# Altium schematic symbol library MCU_Microchip_SAMD.SchLib: 87 symbols (part 2 of 2)
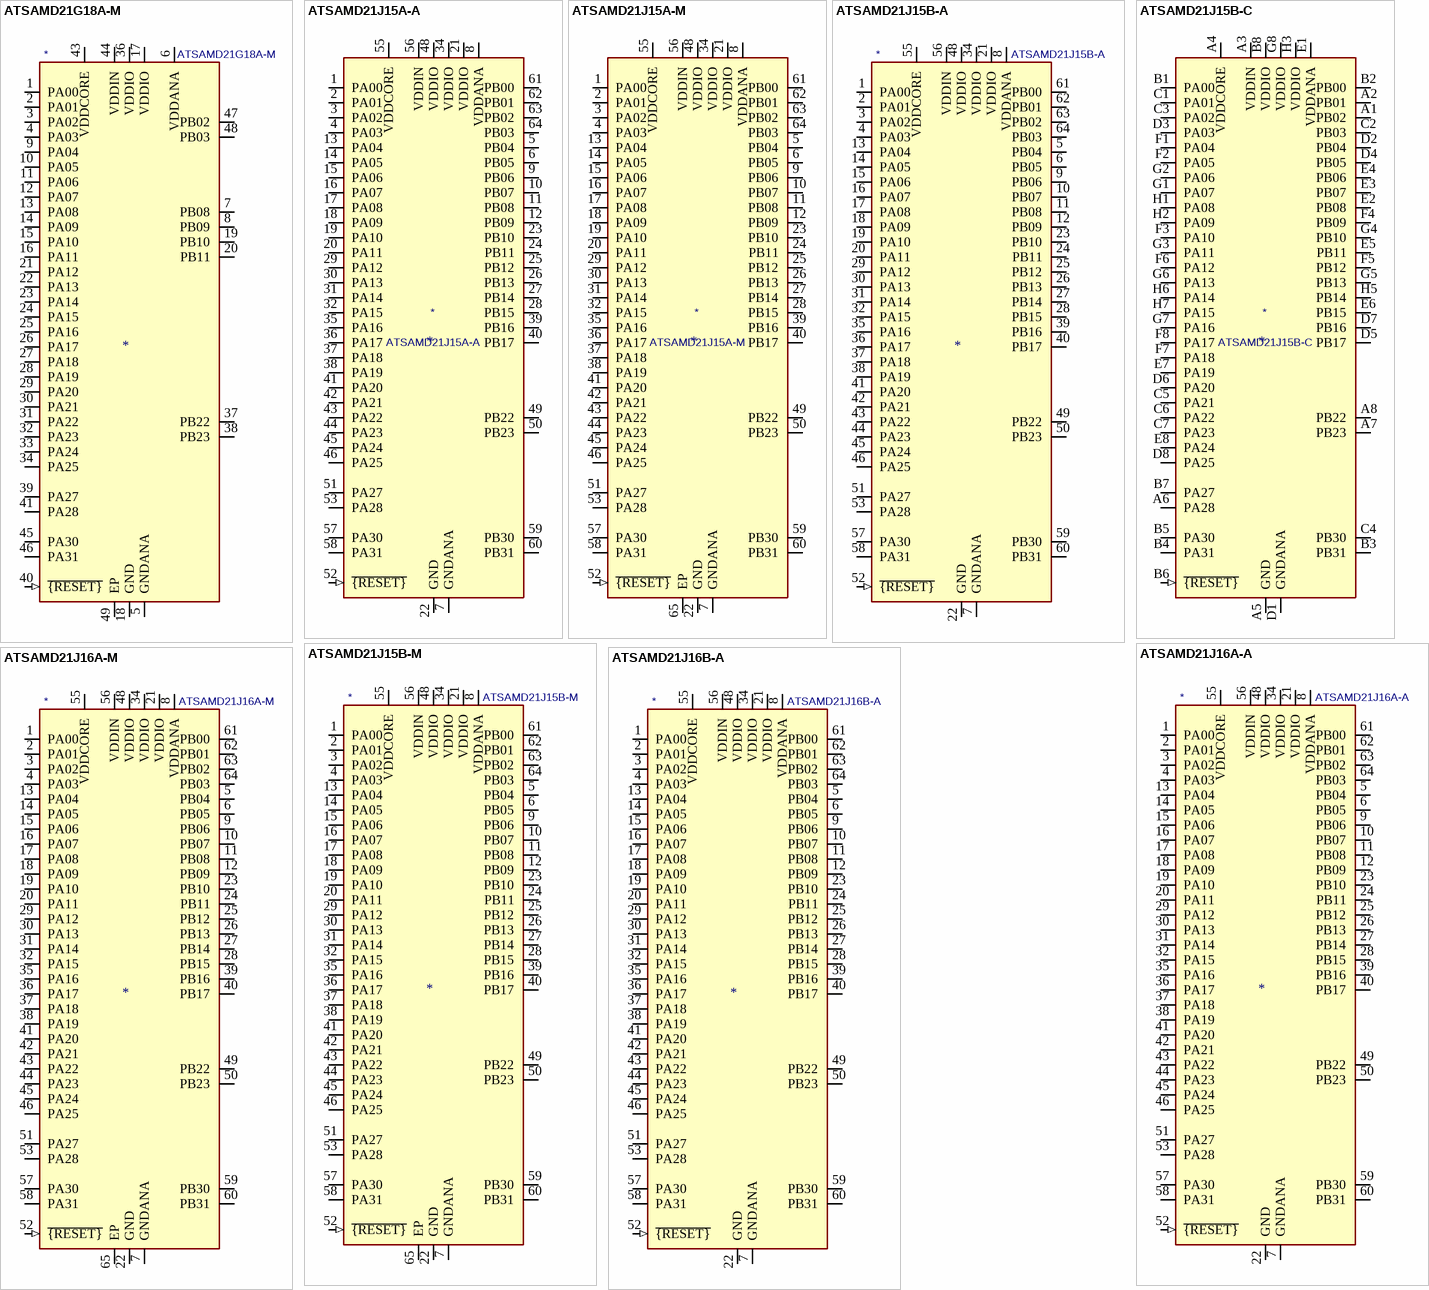
[diagram p8: symbols ATSAMD21G18A-M to ATSAMD21J16B-A]

## ATSAMD21J15A-M
designator *  value ATSAMD21J15A-M
ki_keywords: 32-bit ARM Cortex-M0+ MCU Microcontroller; ki_description: SAM D21 Microchip SMART ARM-based Flash MCU, 48Mhz, 32K Flash, 4K SRAM, QFN-64; ki_fp_filters: QFN*9x9mm*P0.5mm*; Footprint: Package_DFN_QFN:QFN-64-1EP_9x9mm_P0.5mm_EP4.7x4.7mm; Supplier: http://ww1.microchip.com/downloads/en/DeviceDoc/SAM_D21_DA1_Family_Data%20Sheet_DS40001882E.pdf
footprint QFN-64-1EP_9x9mm_P0.5mm_EP4.7x4.7mm
pins: 1 PA00 (io), 2 PA01 (io), 3 PA02 (io), 4 PA03 (io), 5 PB04 (io), 6 PB05 (io), 7 GNDANA (power), 8 VDDANA (power), 9 PB06 (io), 10 PB07 (io), 11 PB08 (io), 12 PB09 (io), 13 PA04 (io), 14 PA05 (io), 15 PA06 (io), 16 PA07 (io), 17 PA08 (io), 18 PA09 (io), 19 PA10 (io), 20 PA11 (io), 21 VDDIO (power), 22 GND (power), 23 PB10 (io), 24 PB11 (io), 25 PB12 (io), 26 PB13 (io), 27 PB14 (io), 28 PB15 (io), 29 PA12 (io), 30 PA13 (io), 31 PA14 (io), 32 PA15 (io), 33 GND hidden, 34 VDDIO (power), 35 PA16 (io), 36 PA17 (io), 37 PA18 (io), 38 PA19 (io), 39 PB16 (io), 40 PB17 (io), 41 PA20 (io), 42 PA21 (io), 43 PA22 (io), 44 PA23 (io), 45 PA24 (io), 46 PA25 (io), 47 GND hidden, 48 VDDIO (power), 49 PB22 (io), 50 PB23 (io), 51 PA27 (io), 52 ~{{RESET}} (in), 53 PA28 (io), 54 GND hidden, 55 VDDCORE (power), 56 VDDIN (power), 57 PA30 (io), 58 PA31 (io), 59 PB30 (io), 60 PB31 (io), 61 PB00 (io), 62 PB01 (io), 63 PB02 (io), 64 PB03 (io), 65 EP

## ATSAMD21J15B-A
designator *  value ATSAMD21J15B-A
ki_keywords: 32-bit ARM Cortex-M0+ MCU Microcontroller; ki_description: SAM D21 Microchip SMART ARM-based Flash MCU, 48Mhz, 32K Flash w/ 1K RWW, 4K SRAM, TQFP-64; ki_fp_filters: TQFP*10x10mm*P0.5mm*; Footprint: Package_QFP:TQFP-64_10x10mm_P0.5mm; Supplier: http://ww1.microchip.com/downloads/en/DeviceDoc/SAM_D21_DA1_Family_Data%20Sheet_DS40001882E.pdf
footprint TQFP-64_10x10mm_P0.5mm
pins: 1 PA00 (io), 2 PA01 (io), 3 PA02 (io), 4 PA03 (io), 5 PB04 (io), 6 PB05 (io), 7 GNDANA (power), 8 VDDANA (power), 9 PB06 (io), 10 PB07 (io), 11 PB08 (io), 12 PB09 (io), 13 PA04 (io), 14 PA05 (io), 15 PA06 (io), 16 PA07 (io), 17 PA08 (io), 18 PA09 (io), 19 PA10 (io), 20 PA11 (io), 21 VDDIO (power), 22 GND (power), 23 PB10 (io), 24 PB11 (io), 25 PB12 (io), 26 PB13 (io), 27 PB14 (io), 28 PB15 (io), 29 PA12 (io), 30 PA13 (io), 31 PA14 (io), 32 PA15 (io), 33 GND hidden, 34 VDDIO (power), 35 PA16 (io), 36 PA17 (io), 37 PA18 (io), 38 PA19 (io), 39 PB16 (io), 40 PB17 (io), 41 PA20 (io), 42 PA21 (io), 43 PA22 (io), 44 PA23 (io), 45 PA24 (io), 46 PA25 (io), 47 GND hidden, 48 VDDIO (power), 49 PB22 (io), 50 PB23 (io), 51 PA27 (io), 52 ~{{RESET}} (in), 53 PA28 (io), 54 GND hidden, 55 VDDCORE (power), 56 VDDIN (power), 57 PA30 (io), 58 PA31 (io), 59 PB30 (io), 60 PB31 (io), 61 PB00 (io), 62 PB01 (io), 63 PB02 (io), 64 PB03 (io)

## ATSAMD21J15B-C
designator *  value ATSAMD21J15B-C
ki_keywords: 32-bit ARM Cortex-M0+ MCU Microcontroller; ki_description: SAM D21 Microchip SMART ARM-based Flash MCU, 48Mhz, 32K Flash w/ 1K RWW, 4K SRAM, UFBGA-64; ki_fp_filters: UFBGA*5x5mm*Layout8x8*P0.5mm*; Footprint: Package_BGA:UFBGA-64_5x5mm_Layout8x8_P0.5mm; Supplier: http://ww1.microchip.com/downloads/en/DeviceDoc/SAM_D21_DA1_Family_Data%20Sheet_DS40001882E.pdf
footprint UFBGA-64_5x5mm_Layout8x8_P0.5mm
pins: A1 PB02 (io), A2 PB01 (io), A3 VDDIN (power), A4 VDDCORE (power), A5 GND (power), A6 PA28 (io), A7 PB23 (io), A8 PB22 (io), B1 PA00 (io), B2 PB00 (io), B3 PB31 (io), B4 PA31 (io), B5 PA30 (io), B6 ~{{RESET}} (in), B7 PA27 (io), B8 VDDIO (power), C1 PA01 (io), C2 PB03 (io), C3 PA02 (io), C4 PB30 (io), C5 PA21 (io), C6 PA22 (io), C7 PA23 (io), C8 GND hidden, D1 GNDANA (power), D2 PB04 (io), D3 PA03 (io), D4 PB05 (io), D5 PB17 (io), D6 PA20 (io), D7 PB16 (io), D8 PA25 (io), E1 VDDANA (power), E2 PB08 (io), E3 PB07 (io), E4 PB06 (io), E5 PB11 (io), E6 PB15 (io), E7 PA19 (io), E8 PA24 (io), F1 PA04 (io), F2 PA05 (io), F3 PA10 (io), F4 PB09 (io), F5 PB12 (io), F6 PA12 (io), F7 PA18 (io), F8 PA17 (io), G1 PA07 (io), G2 PA06 (io), G3 PA11 (io), G4 PB10 (io), G5 PB13 (io), G6 PA13 (io), G7 PA16 (io), G8 VDDIO (power), H1 PA08 (io), H2 PA09 (io), H3 VDDIO (power), H4 GND hidden, H5 PB14 (io), H6 PA14 (io), H7 PA15 (io), H8 GND hidden

## ATSAMD21J15B-M
designator *  value ATSAMD21J15B-M
ki_keywords: 32-bit ARM Cortex-M0+ MCU Microcontroller; ki_description: SAM D21 Microchip SMART ARM-based Flash MCU, 48Mhz, 32K Flash w/ 1K RWW, 4K SRAM, QFN-64; ki_fp_filters: QFN*9x9mm*P0.5mm*; Footprint: Package_DFN_QFN:QFN-64-1EP_9x9mm_P0.5mm_EP4.7x4.7mm; Supplier: http://ww1.microchip.com/downloads/en/DeviceDoc/SAM_D21_DA1_Family_Data%20Sheet_DS40001882E.pdf
footprint QFN-64-1EP_9x9mm_P0.5mm_EP4.7x4.7mm
pins: 1 PA00 (io), 2 PA01 (io), 3 PA02 (io), 4 PA03 (io), 5 PB04 (io), 6 PB05 (io), 7 GNDANA (power), 8 VDDANA (power), 9 PB06 (io), 10 PB07 (io), 11 PB08 (io), 12 PB09 (io), 13 PA04 (io), 14 PA05 (io), 15 PA06 (io), 16 PA07 (io), 17 PA08 (io), 18 PA09 (io), 19 PA10 (io), 20 PA11 (io), 21 VDDIO (power), 22 GND (power), 23 PB10 (io), 24 PB11 (io), 25 PB12 (io), 26 PB13 (io), 27 PB14 (io), 28 PB15 (io), 29 PA12 (io), 30 PA13 (io), 31 PA14 (io), 32 PA15 (io), 33 GND hidden, 34 VDDIO (power), 35 PA16 (io), 36 PA17 (io), 37 PA18 (io), 38 PA19 (io), 39 PB16 (io), 40 PB17 (io), 41 PA20 (io), 42 PA21 (io), 43 PA22 (io), 44 PA23 (io), 45 PA24 (io), 46 PA25 (io), 47 GND hidden, 48 VDDIO (power), 49 PB22 (io), 50 PB23 (io), 51 PA27 (io), 52 ~{{RESET}} (in), 53 PA28 (io), 54 GND hidden, 55 VDDCORE (power), 56 VDDIN (power), 57 PA30 (io), 58 PA31 (io), 59 PB30 (io), 60 PB31 (io), 61 PB00 (io), 62 PB01 (io), 63 PB02 (io), 64 PB03 (io), 65 EP

## ATSAMD21J16A-A
designator *  value ATSAMD21J16A-A
ki_keywords: 32-bit ARM Cortex-M0+ MCU Microcontroller; ki_description: SAM D21 Microchip SMART ARM-based Flash MCU, 48Mhz, 64K Flash, 8K SRAM, TQFP-64; ki_fp_filters: TQFP*10x10mm*P0.5mm*; Footprint: Package_QFP:TQFP-64_10x10mm_P0.5mm; Supplier: http://ww1.microchip.com/downloads/en/DeviceDoc/SAM_D21_DA1_Family_Data%20Sheet_DS40001882E.pdf
footprint TQFP-64_10x10mm_P0.5mm
pins: 1 PA00 (io), 2 PA01 (io), 3 PA02 (io), 4 PA03 (io), 5 PB04 (io), 6 PB05 (io), 7 GNDANA (power), 8 VDDANA (power), 9 PB06 (io), 10 PB07 (io), 11 PB08 (io), 12 PB09 (io), 13 PA04 (io), 14 PA05 (io), 15 PA06 (io), 16 PA07 (io), 17 PA08 (io), 18 PA09 (io), 19 PA10 (io), 20 PA11 (io), 21 VDDIO (power), 22 GND (power), 23 PB10 (io), 24 PB11 (io), 25 PB12 (io), 26 PB13 (io), 27 PB14 (io), 28 PB15 (io), 29 PA12 (io), 30 PA13 (io), 31 PA14 (io), 32 PA15 (io), 33 GND hidden, 34 VDDIO (power), 35 PA16 (io), 36 PA17 (io), 37 PA18 (io), 38 PA19 (io), 39 PB16 (io), 40 PB17 (io), 41 PA20 (io), 42 PA21 (io), 43 PA22 (io), 44 PA23 (io), 45 PA24 (io), 46 PA25 (io), 47 GND hidden, 48 VDDIO (power), 49 PB22 (io), 50 PB23 (io), 51 PA27 (io), 52 ~{{RESET}} (in), 53 PA28 (io), 54 GND hidden, 55 VDDCORE (power), 56 VDDIN (power), 57 PA30 (io), 58 PA31 (io), 59 PB30 (io), 60 PB31 (io), 61 PB00 (io), 62 PB01 (io), 63 PB02 (io), 64 PB03 (io)

## ATSAMD21J16A-M
designator *  value ATSAMD21J16A-M
ki_keywords: 32-bit ARM Cortex-M0+ MCU Microcontroller; ki_description: SAM D21 Microchip SMART ARM-based Flash MCU, 48Mhz, 64K Flash, 8K SRAM, QFN-64; ki_fp_filters: QFN*9x9mm*P0.5mm*; Footprint: Package_DFN_QFN:QFN-64-1EP_9x9mm_P0.5mm_EP4.7x4.7mm; Supplier: http://ww1.microchip.com/downloads/en/DeviceDoc/SAM_D21_DA1_Family_Data%20Sheet_DS40001882E.pdf
footprint QFN-64-1EP_9x9mm_P0.5mm_EP4.7x4.7mm
pins: 1 PA00 (io), 2 PA01 (io), 3 PA02 (io), 4 PA03 (io), 5 PB04 (io), 6 PB05 (io), 7 GNDANA (power), 8 VDDANA (power), 9 PB06 (io), 10 PB07 (io), 11 PB08 (io), 12 PB09 (io), 13 PA04 (io), 14 PA05 (io), 15 PA06 (io), 16 PA07 (io), 17 PA08 (io), 18 PA09 (io), 19 PA10 (io), 20 PA11 (io), 21 VDDIO (power), 22 GND (power), 23 PB10 (io), 24 PB11 (io), 25 PB12 (io), 26 PB13 (io), 27 PB14 (io), 28 PB15 (io), 29 PA12 (io), 30 PA13 (io), 31 PA14 (io), 32 PA15 (io), 33 GND hidden, 34 VDDIO (power), 35 PA16 (io), 36 PA17 (io), 37 PA18 (io), 38 PA19 (io), 39 PB16 (io), 40 PB17 (io), 41 PA20 (io), 42 PA21 (io), 43 PA22 (io), 44 PA23 (io), 45 PA24 (io), 46 PA25 (io), 47 GND hidden, 48 VDDIO (power), 49 PB22 (io), 50 PB23 (io), 51 PA27 (io), 52 ~{{RESET}} (in), 53 PA28 (io), 54 GND hidden, 55 VDDCORE (power), 56 VDDIN (power), 57 PA30 (io), 58 PA31 (io), 59 PB30 (io), 60 PB31 (io), 61 PB00 (io), 62 PB01 (io), 63 PB02 (io), 64 PB03 (io), 65 EP

## ATSAMD21J16B-A
designator *  value ATSAMD21J16B-A
ki_keywords: 32-bit ARM Cortex-M0+ MCU Microcontroller; ki_description: SAM D21 Microchip SMART ARM-based Flash MCU, 48Mhz, 64K Flash w/ 2K RWW, 8K SRAM, TQFP-64; ki_fp_filters: TQFP*10x10mm*P0.5mm*; Footprint: Package_QFP:TQFP-64_10x10mm_P0.5mm; Supplier: http://ww1.microchip.com/downloads/en/DeviceDoc/SAM_D21_DA1_Family_Data%20Sheet_DS40001882E.pdf
footprint TQFP-64_10x10mm_P0.5mm
pins: 1 PA00 (io), 2 PA01 (io), 3 PA02 (io), 4 PA03 (io), 5 PB04 (io), 6 PB05 (io), 7 GNDANA (power), 8 VDDANA (power), 9 PB06 (io), 10 PB07 (io), 11 PB08 (io), 12 PB09 (io), 13 PA04 (io), 14 PA05 (io), 15 PA06 (io), 16 PA07 (io), 17 PA08 (io), 18 PA09 (io), 19 PA10 (io), 20 PA11 (io), 21 VDDIO (power), 22 GND (power), 23 PB10 (io), 24 PB11 (io), 25 PB12 (io), 26 PB13 (io), 27 PB14 (io), 28 PB15 (io), 29 PA12 (io), 30 PA13 (io), 31 PA14 (io), 32 PA15 (io), 33 GND hidden, 34 VDDIO (power), 35 PA16 (io), 36 PA17 (io), 37 PA18 (io), 38 PA19 (io), 39 PB16 (io), 40 PB17 (io), 41 PA20 (io), 42 PA21 (io), 43 PA22 (io), 44 PA23 (io), 45 PA24 (io), 46 PA25 (io), 47 GND hidden, 48 VDDIO (power), 49 PB22 (io), 50 PB23 (io), 51 PA27 (io), 52 ~{{RESET}} (in), 53 PA28 (io), 54 GND hidden, 55 VDDCORE (power), 56 VDDIN (power), 57 PA30 (io), 58 PA31 (io), 59 PB30 (io), 60 PB31 (io), 61 PB00 (io), 62 PB01 (io), 63 PB02 (io), 64 PB03 (io)

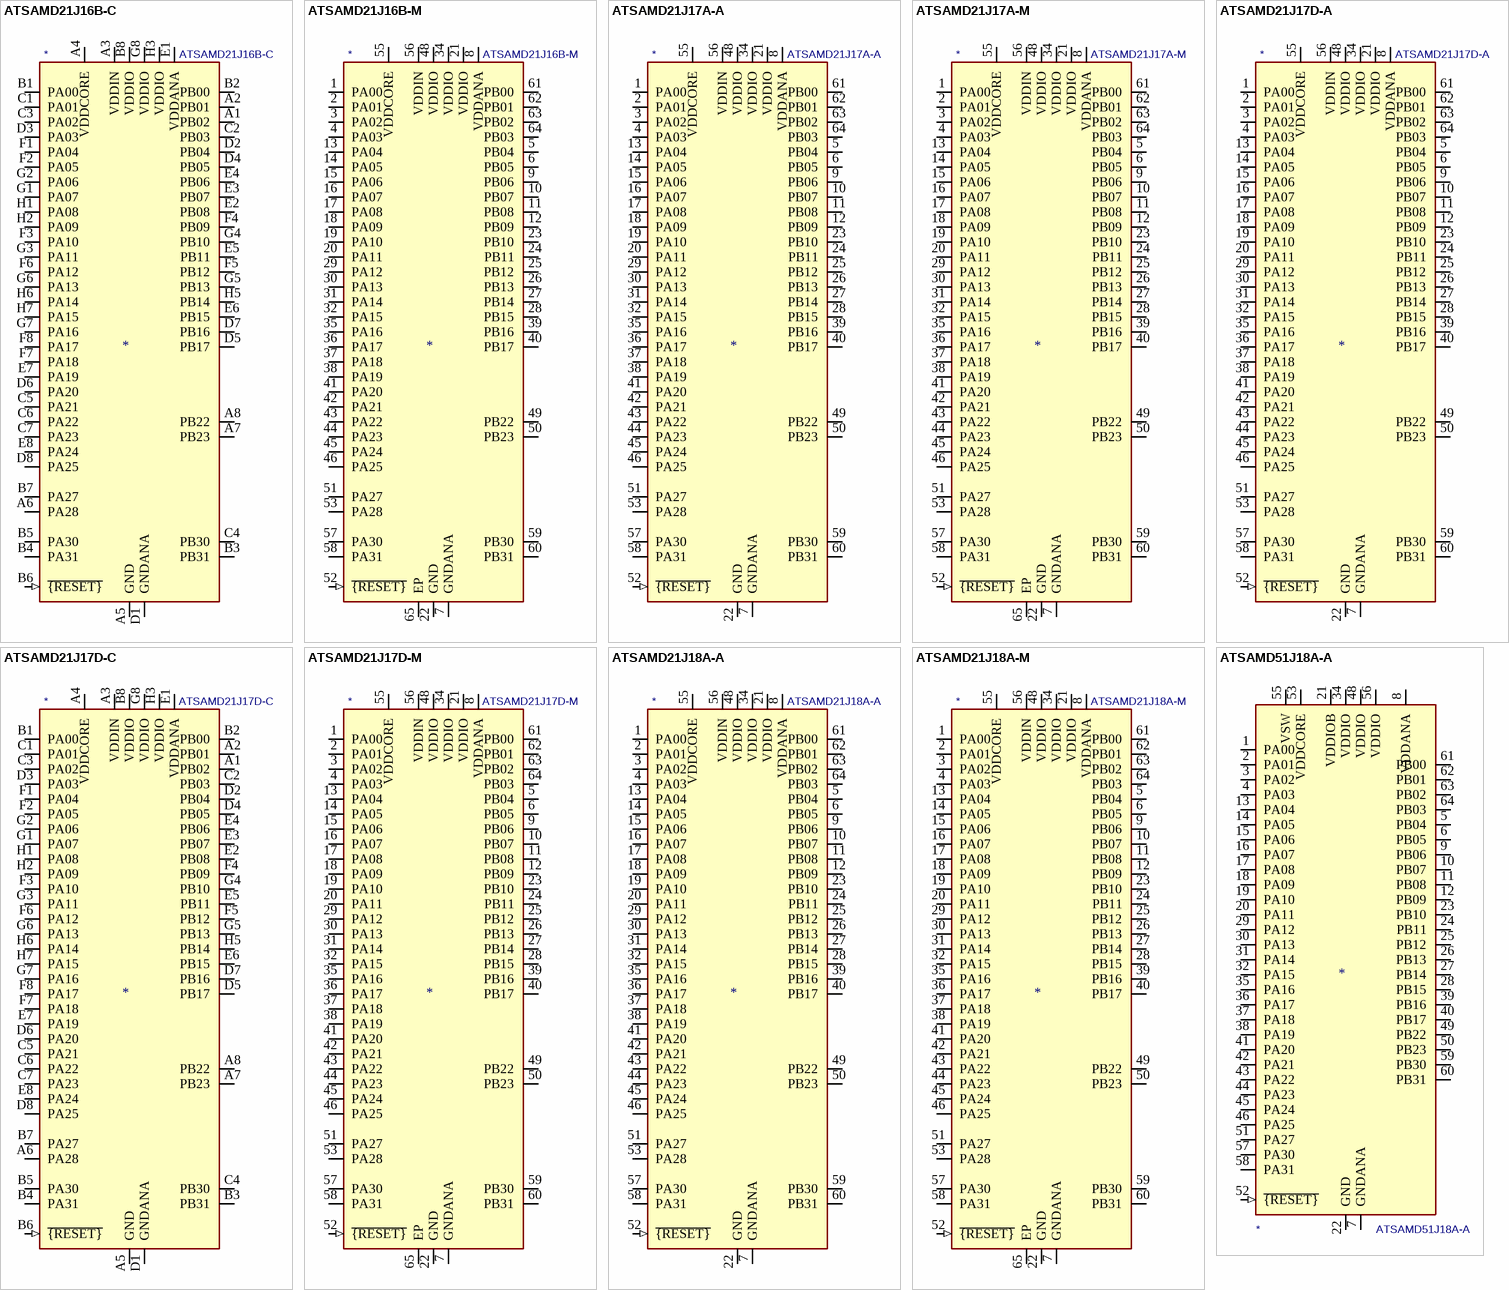
[diagram p5: symbols ATSAMD21J16B-C to ATSAMD51J18A-A]

## ATSAMD21J16B-C
designator *  value ATSAMD21J16B-C
ki_keywords: 32-bit ARM Cortex-M0+ MCU Microcontroller; ki_description: SAM D21 Microchip SMART ARM-based Flash MCU, 48Mhz, 64K Flash w/ 2K RWW, 8K SRAM, UFBGA-64; ki_fp_filters: UFBGA*5x5mm*Layout8x8*P0.5mm*; Footprint: Package_BGA:UFBGA-64_5x5mm_Layout8x8_P0.5mm; Supplier: http://ww1.microchip.com/downloads/en/DeviceDoc/SAM_D21_DA1_Family_Data%20Sheet_DS40001882E.pdf
footprint UFBGA-64_5x5mm_Layout8x8_P0.5mm
pins: A1 PB02 (io), A2 PB01 (io), A3 VDDIN (power), A4 VDDCORE (power), A5 GND (power), A6 PA28 (io), A7 PB23 (io), A8 PB22 (io), B1 PA00 (io), B2 PB00 (io), B3 PB31 (io), B4 PA31 (io), B5 PA30 (io), B6 ~{{RESET}} (in), B7 PA27 (io), B8 VDDIO (power), C1 PA01 (io), C2 PB03 (io), C3 PA02 (io), C4 PB30 (io), C5 PA21 (io), C6 PA22 (io), C7 PA23 (io), C8 GND hidden, D1 GNDANA (power), D2 PB04 (io), D3 PA03 (io), D4 PB05 (io), D5 PB17 (io), D6 PA20 (io), D7 PB16 (io), D8 PA25 (io), E1 VDDANA (power), E2 PB08 (io), E3 PB07 (io), E4 PB06 (io), E5 PB11 (io), E6 PB15 (io), E7 PA19 (io), E8 PA24 (io), F1 PA04 (io), F2 PA05 (io), F3 PA10 (io), F4 PB09 (io), F5 PB12 (io), F6 PA12 (io), F7 PA18 (io), F8 PA17 (io), G1 PA07 (io), G2 PA06 (io), G3 PA11 (io), G4 PB10 (io), G5 PB13 (io), G6 PA13 (io), G7 PA16 (io), G8 VDDIO (power), H1 PA08 (io), H2 PA09 (io), H3 VDDIO (power), H4 GND hidden, H5 PB14 (io), H6 PA14 (io), H7 PA15 (io), H8 GND hidden

## ATSAMD21J16B-M
designator *  value ATSAMD21J16B-M
ki_keywords: 32-bit ARM Cortex-M0+ MCU Microcontroller; ki_description: SAM D21 Microchip SMART ARM-based Flash MCU, 48Mhz, 64K Flash w/ 2K RWW, 8K SRAM, QFN-64; ki_fp_filters: QFN*9x9mm*P0.5mm*; Footprint: Package_DFN_QFN:QFN-64-1EP_9x9mm_P0.5mm_EP4.7x4.7mm; Supplier: http://ww1.microchip.com/downloads/en/DeviceDoc/SAM_D21_DA1_Family_Data%20Sheet_DS40001882E.pdf
footprint QFN-64-1EP_9x9mm_P0.5mm_EP4.7x4.7mm
pins: 1 PA00 (io), 2 PA01 (io), 3 PA02 (io), 4 PA03 (io), 5 PB04 (io), 6 PB05 (io), 7 GNDANA (power), 8 VDDANA (power), 9 PB06 (io), 10 PB07 (io), 11 PB08 (io), 12 PB09 (io), 13 PA04 (io), 14 PA05 (io), 15 PA06 (io), 16 PA07 (io), 17 PA08 (io), 18 PA09 (io), 19 PA10 (io), 20 PA11 (io), 21 VDDIO (power), 22 GND (power), 23 PB10 (io), 24 PB11 (io), 25 PB12 (io), 26 PB13 (io), 27 PB14 (io), 28 PB15 (io), 29 PA12 (io), 30 PA13 (io), 31 PA14 (io), 32 PA15 (io), 33 GND hidden, 34 VDDIO (power), 35 PA16 (io), 36 PA17 (io), 37 PA18 (io), 38 PA19 (io), 39 PB16 (io), 40 PB17 (io), 41 PA20 (io), 42 PA21 (io), 43 PA22 (io), 44 PA23 (io), 45 PA24 (io), 46 PA25 (io), 47 GND hidden, 48 VDDIO (power), 49 PB22 (io), 50 PB23 (io), 51 PA27 (io), 52 ~{{RESET}} (in), 53 PA28 (io), 54 GND hidden, 55 VDDCORE (power), 56 VDDIN (power), 57 PA30 (io), 58 PA31 (io), 59 PB30 (io), 60 PB31 (io), 61 PB00 (io), 62 PB01 (io), 63 PB02 (io), 64 PB03 (io), 65 EP

## ATSAMD21J17A-A
designator *  value ATSAMD21J17A-A
ki_keywords: 32-bit ARM Cortex-M0+ MCU Microcontroller; ki_description: SAM D21 Microchip SMART ARM-based Flash MCU, 48Mhz, 128K Flash, 16K SRAM, TQFP-64; ki_fp_filters: TQFP*10x10mm*P0.5mm*; Footprint: Package_QFP:TQFP-64_10x10mm_P0.5mm; Supplier: http://ww1.microchip.com/downloads/en/DeviceDoc/SAM_D21_DA1_Family_Data%20Sheet_DS40001882E.pdf
footprint TQFP-64_10x10mm_P0.5mm
pins: 1 PA00 (io), 2 PA01 (io), 3 PA02 (io), 4 PA03 (io), 5 PB04 (io), 6 PB05 (io), 7 GNDANA (power), 8 VDDANA (power), 9 PB06 (io), 10 PB07 (io), 11 PB08 (io), 12 PB09 (io), 13 PA04 (io), 14 PA05 (io), 15 PA06 (io), 16 PA07 (io), 17 PA08 (io), 18 PA09 (io), 19 PA10 (io), 20 PA11 (io), 21 VDDIO (power), 22 GND (power), 23 PB10 (io), 24 PB11 (io), 25 PB12 (io), 26 PB13 (io), 27 PB14 (io), 28 PB15 (io), 29 PA12 (io), 30 PA13 (io), 31 PA14 (io), 32 PA15 (io), 33 GND hidden, 34 VDDIO (power), 35 PA16 (io), 36 PA17 (io), 37 PA18 (io), 38 PA19 (io), 39 PB16 (io), 40 PB17 (io), 41 PA20 (io), 42 PA21 (io), 43 PA22 (io), 44 PA23 (io), 45 PA24 (io), 46 PA25 (io), 47 GND hidden, 48 VDDIO (power), 49 PB22 (io), 50 PB23 (io), 51 PA27 (io), 52 ~{{RESET}} (in), 53 PA28 (io), 54 GND hidden, 55 VDDCORE (power), 56 VDDIN (power), 57 PA30 (io), 58 PA31 (io), 59 PB30 (io), 60 PB31 (io), 61 PB00 (io), 62 PB01 (io), 63 PB02 (io), 64 PB03 (io)

## ATSAMD21J17A-M
designator *  value ATSAMD21J17A-M
ki_keywords: 32-bit ARM Cortex-M0+ MCU Microcontroller; ki_description: SAM D21 Microchip SMART ARM-based Flash MCU, 48Mhz, 128K Flash, 16K SRAM, QFN-64; ki_fp_filters: QFN*9x9mm*P0.5mm*; Footprint: Package_DFN_QFN:QFN-64-1EP_9x9mm_P0.5mm_EP4.7x4.7mm; Supplier: http://ww1.microchip.com/downloads/en/DeviceDoc/SAM_D21_DA1_Family_Data%20Sheet_DS40001882E.pdf
footprint QFN-64-1EP_9x9mm_P0.5mm_EP4.7x4.7mm
pins: 1 PA00 (io), 2 PA01 (io), 3 PA02 (io), 4 PA03 (io), 5 PB04 (io), 6 PB05 (io), 7 GNDANA (power), 8 VDDANA (power), 9 PB06 (io), 10 PB07 (io), 11 PB08 (io), 12 PB09 (io), 13 PA04 (io), 14 PA05 (io), 15 PA06 (io), 16 PA07 (io), 17 PA08 (io), 18 PA09 (io), 19 PA10 (io), 20 PA11 (io), 21 VDDIO (power), 22 GND (power), 23 PB10 (io), 24 PB11 (io), 25 PB12 (io), 26 PB13 (io), 27 PB14 (io), 28 PB15 (io), 29 PA12 (io), 30 PA13 (io), 31 PA14 (io), 32 PA15 (io), 33 GND hidden, 34 VDDIO (power), 35 PA16 (io), 36 PA17 (io), 37 PA18 (io), 38 PA19 (io), 39 PB16 (io), 40 PB17 (io), 41 PA20 (io), 42 PA21 (io), 43 PA22 (io), 44 PA23 (io), 45 PA24 (io), 46 PA25 (io), 47 GND hidden, 48 VDDIO (power), 49 PB22 (io), 50 PB23 (io), 51 PA27 (io), 52 ~{{RESET}} (in), 53 PA28 (io), 54 GND hidden, 55 VDDCORE (power), 56 VDDIN (power), 57 PA30 (io), 58 PA31 (io), 59 PB30 (io), 60 PB31 (io), 61 PB00 (io), 62 PB01 (io), 63 PB02 (io), 64 PB03 (io), 65 EP

## ATSAMD21J17D-A
designator *  value ATSAMD21J17D-A
ki_keywords: 32-bit ARM Cortex-M0+ MCU Microcontroller; ki_description: SAM D21 Microchip SMART ARM-based Flash MCU, 48Mhz, 128K Flash w/ 4K RWW, 16K SRAM, TQFP-64; ki_fp_filters: TQFP*10x10mm*P0.5mm*; Footprint: Package_QFP:TQFP-64_10x10mm_P0.5mm; Supplier: http://ww1.microchip.com/downloads/en/DeviceDoc/SAM_D21_DA1_Family_Data%20Sheet_DS40001882E.pdf
footprint TQFP-64_10x10mm_P0.5mm
pins: 1 PA00 (io), 2 PA01 (io), 3 PA02 (io), 4 PA03 (io), 5 PB04 (io), 6 PB05 (io), 7 GNDANA (power), 8 VDDANA (power), 9 PB06 (io), 10 PB07 (io), 11 PB08 (io), 12 PB09 (io), 13 PA04 (io), 14 PA05 (io), 15 PA06 (io), 16 PA07 (io), 17 PA08 (io), 18 PA09 (io), 19 PA10 (io), 20 PA11 (io), 21 VDDIO (power), 22 GND (power), 23 PB10 (io), 24 PB11 (io), 25 PB12 (io), 26 PB13 (io), 27 PB14 (io), 28 PB15 (io), 29 PA12 (io), 30 PA13 (io), 31 PA14 (io), 32 PA15 (io), 33 GND hidden, 34 VDDIO (power), 35 PA16 (io), 36 PA17 (io), 37 PA18 (io), 38 PA19 (io), 39 PB16 (io), 40 PB17 (io), 41 PA20 (io), 42 PA21 (io), 43 PA22 (io), 44 PA23 (io), 45 PA24 (io), 46 PA25 (io), 47 GND hidden, 48 VDDIO (power), 49 PB22 (io), 50 PB23 (io), 51 PA27 (io), 52 ~{{RESET}} (in), 53 PA28 (io), 54 GND hidden, 55 VDDCORE (power), 56 VDDIN (power), 57 PA30 (io), 58 PA31 (io), 59 PB30 (io), 60 PB31 (io), 61 PB00 (io), 62 PB01 (io), 63 PB02 (io), 64 PB03 (io)

## ATSAMD21J17D-C
designator *  value ATSAMD21J17D-C
ki_keywords: 32-bit ARM Cortex-M0+ MCU Microcontroller; ki_description: SAM D21 Microchip SMART ARM-based Flash MCU, 48Mhz, 128K Flash w/ 4K RWW, 16K SRAM, UFBGA-64; ki_fp_filters: UFBGA*5x5mm*Layout8x8*P0.5mm*; Footprint: Package_BGA:UFBGA-64_5x5mm_Layout8x8_P0.5mm; Supplier: http://ww1.microchip.com/downloads/en/DeviceDoc/SAM_D21_DA1_Family_Data%20Sheet_DS40001882E.pdf
footprint UFBGA-64_5x5mm_Layout8x8_P0.5mm
pins: A1 PB02 (io), A2 PB01 (io), A3 VDDIN (power), A4 VDDCORE (power), A5 GND (power), A6 PA28 (io), A7 PB23 (io), A8 PB22 (io), B1 PA00 (io), B2 PB00 (io), B3 PB31 (io), B4 PA31 (io), B5 PA30 (io), B6 ~{{RESET}} (in), B7 PA27 (io), B8 VDDIO (power), C1 PA01 (io), C2 PB03 (io), C3 PA02 (io), C4 PB30 (io), C5 PA21 (io), C6 PA22 (io), C7 PA23 (io), C8 GND hidden, D1 GNDANA (power), D2 PB04 (io), D3 PA03 (io), D4 PB05 (io), D5 PB17 (io), D6 PA20 (io), D7 PB16 (io), D8 PA25 (io), E1 VDDANA (power), E2 PB08 (io), E3 PB07 (io), E4 PB06 (io), E5 PB11 (io), E6 PB15 (io), E7 PA19 (io), E8 PA24 (io), F1 PA04 (io), F2 PA05 (io), F3 PA10 (io), F4 PB09 (io), F5 PB12 (io), F6 PA12 (io), F7 PA18 (io), F8 PA17 (io), G1 PA07 (io), G2 PA06 (io), G3 PA11 (io), G4 PB10 (io), G5 PB13 (io), G6 PA13 (io), G7 PA16 (io), G8 VDDIO (power), H1 PA08 (io), H2 PA09 (io), H3 VDDIO (power), H4 GND hidden, H5 PB14 (io), H6 PA14 (io), H7 PA15 (io), H8 GND hidden

## ATSAMD21J17D-M
designator *  value ATSAMD21J17D-M
ki_keywords: 32-bit ARM Cortex-M0+ MCU Microcontroller; ki_description: SAM D21 Microchip SMART ARM-based Flash MCU, 48Mhz, 128K Flash w/ 4K RWW, 16K SRAM, QFN-64; ki_fp_filters: QFN*9x9mm*P0.5mm*; Footprint: Package_DFN_QFN:QFN-64-1EP_9x9mm_P0.5mm_EP4.7x4.7mm; Supplier: http://ww1.microchip.com/downloads/en/DeviceDoc/SAM_D21_DA1_Family_Data%20Sheet_DS40001882E.pdf
footprint QFN-64-1EP_9x9mm_P0.5mm_EP4.7x4.7mm
pins: 1 PA00 (io), 2 PA01 (io), 3 PA02 (io), 4 PA03 (io), 5 PB04 (io), 6 PB05 (io), 7 GNDANA (power), 8 VDDANA (power), 9 PB06 (io), 10 PB07 (io), 11 PB08 (io), 12 PB09 (io), 13 PA04 (io), 14 PA05 (io), 15 PA06 (io), 16 PA07 (io), 17 PA08 (io), 18 PA09 (io), 19 PA10 (io), 20 PA11 (io), 21 VDDIO (power), 22 GND (power), 23 PB10 (io), 24 PB11 (io), 25 PB12 (io), 26 PB13 (io), 27 PB14 (io), 28 PB15 (io), 29 PA12 (io), 30 PA13 (io), 31 PA14 (io), 32 PA15 (io), 33 GND hidden, 34 VDDIO (power), 35 PA16 (io), 36 PA17 (io), 37 PA18 (io), 38 PA19 (io), 39 PB16 (io), 40 PB17 (io), 41 PA20 (io), 42 PA21 (io), 43 PA22 (io), 44 PA23 (io), 45 PA24 (io), 46 PA25 (io), 47 GND hidden, 48 VDDIO (power), 49 PB22 (io), 50 PB23 (io), 51 PA27 (io), 52 ~{{RESET}} (in), 53 PA28 (io), 54 GND hidden, 55 VDDCORE (power), 56 VDDIN (power), 57 PA30 (io), 58 PA31 (io), 59 PB30 (io), 60 PB31 (io), 61 PB00 (io), 62 PB01 (io), 63 PB02 (io), 64 PB03 (io), 65 EP

## ATSAMD21J18A-A
designator *  value ATSAMD21J18A-A
ki_keywords: 32-bit ARM Cortex-M0+ MCU Microcontroller; ki_description: SAM D21 Microchip SMART ARM-based Flash MCU, 48Mhz, 256K Flash, 32K SRAM, TQFP-64; ki_fp_filters: TQFP*10x10mm*P0.5mm*; Footprint: Package_QFP:TQFP-64_10x10mm_P0.5mm; Supplier: http://ww1.microchip.com/downloads/en/DeviceDoc/SAM_D21_DA1_Family_Data%20Sheet_DS40001882E.pdf
footprint TQFP-64_10x10mm_P0.5mm
pins: 1 PA00 (io), 2 PA01 (io), 3 PA02 (io), 4 PA03 (io), 5 PB04 (io), 6 PB05 (io), 7 GNDANA (power), 8 VDDANA (power), 9 PB06 (io), 10 PB07 (io), 11 PB08 (io), 12 PB09 (io), 13 PA04 (io), 14 PA05 (io), 15 PA06 (io), 16 PA07 (io), 17 PA08 (io), 18 PA09 (io), 19 PA10 (io), 20 PA11 (io), 21 VDDIO (power), 22 GND (power), 23 PB10 (io), 24 PB11 (io), 25 PB12 (io), 26 PB13 (io), 27 PB14 (io), 28 PB15 (io), 29 PA12 (io), 30 PA13 (io), 31 PA14 (io), 32 PA15 (io), 33 GND hidden, 34 VDDIO (power), 35 PA16 (io), 36 PA17 (io), 37 PA18 (io), 38 PA19 (io), 39 PB16 (io), 40 PB17 (io), 41 PA20 (io), 42 PA21 (io), 43 PA22 (io), 44 PA23 (io), 45 PA24 (io), 46 PA25 (io), 47 GND hidden, 48 VDDIO (power), 49 PB22 (io), 50 PB23 (io), 51 PA27 (io), 52 ~{{RESET}} (in), 53 PA28 (io), 54 GND hidden, 55 VDDCORE (power), 56 VDDIN (power), 57 PA30 (io), 58 PA31 (io), 59 PB30 (io), 60 PB31 (io), 61 PB00 (io), 62 PB01 (io), 63 PB02 (io), 64 PB03 (io)

## ATSAMD21J18A-M
designator *  value ATSAMD21J18A-M
ki_keywords: 32-bit ARM Cortex-M0+ MCU Microcontroller; ki_description: SAM D21 Microchip SMART ARM-based Flash MCU, 48Mhz, 256K Flash, 32K SRAM, QFN-64; ki_fp_filters: QFN*9x9mm*P0.5mm*; Footprint: Package_DFN_QFN:QFN-64-1EP_9x9mm_P0.5mm_EP4.7x4.7mm; Supplier: http://ww1.microchip.com/downloads/en/DeviceDoc/SAM_D21_DA1_Family_Data%20Sheet_DS40001882E.pdf
footprint QFN-64-1EP_9x9mm_P0.5mm_EP4.7x4.7mm
pins: 1 PA00 (io), 2 PA01 (io), 3 PA02 (io), 4 PA03 (io), 5 PB04 (io), 6 PB05 (io), 7 GNDANA (power), 8 VDDANA (power), 9 PB06 (io), 10 PB07 (io), 11 PB08 (io), 12 PB09 (io), 13 PA04 (io), 14 PA05 (io), 15 PA06 (io), 16 PA07 (io), 17 PA08 (io), 18 PA09 (io), 19 PA10 (io), 20 PA11 (io), 21 VDDIO (power), 22 GND (power), 23 PB10 (io), 24 PB11 (io), 25 PB12 (io), 26 PB13 (io), 27 PB14 (io), 28 PB15 (io), 29 PA12 (io), 30 PA13 (io), 31 PA14 (io), 32 PA15 (io), 33 GND hidden, 34 VDDIO (power), 35 PA16 (io), 36 PA17 (io), 37 PA18 (io), 38 PA19 (io), 39 PB16 (io), 40 PB17 (io), 41 PA20 (io), 42 PA21 (io), 43 PA22 (io), 44 PA23 (io), 45 PA24 (io), 46 PA25 (io), 47 GND hidden, 48 VDDIO (power), 49 PB22 (io), 50 PB23 (io), 51 PA27 (io), 52 ~{{RESET}} (in), 53 PA28 (io), 54 GND hidden, 55 VDDCORE (power), 56 VDDIN (power), 57 PA30 (io), 58 PA31 (io), 59 PB30 (io), 60 PB31 (io), 61 PB00 (io), 62 PB01 (io), 63 PB02 (io), 64 PB03 (io), 65 EP

## ATSAMD51J18A-A
designator *  value ATSAMD51J18A-A
ki_keywords: 32-bit ARM Cortex-M4F MCU Microcontroller; ki_description: SAM D51 Microchip SMART ARM Cortex-M4F-based MCU, 256K Flash, 128K SRAM, TQFP-64; ki_fp_filters: TQFP*10x10mm*P0.5mm*; Footprint: Package_QFP:TQFP-64_10x10mm_P0.5mm; Supplier: http://ww1.microchip.com/downloads/en/DeviceDoc/60001507E.pdf
footprint TQFP-64_10x10mm_P0.5mm
pins: 1 PA00 (io), 2 PA01 (io), 3 PA02 (io), 4 PA03 (io), 5 PB04 (io), 6 PB05 (io), 7 GNDANA (power), 8 VDDANA (power), 9 PB06 (io), 10 PB07 (io), 11 PB08 (io), 12 PB09 (io), 13 PA04 (io), 14 PA05 (io), 15 PA06 (io), 16 PA07 (io), 17 PA08 (io), 18 PA09 (io), 19 PA10 (io), 20 PA11 (io), 21 VDDIOB (power), 22 GND (power), 23 PB10 (io), 24 PB11 (io), 25 PB12 (io), 26 PB13 (io), 27 PB14 (io), 28 PB15 (io), 29 PA12 (io), 30 PA13 (io), 31 PA14 (io), 32 PA15 (io), 33 GND hidden, 34 VDDIO (power), 35 PA16 (io), 36 PA17 (io), 37 PA18 (io), 38 PA19 (io), 39 PB16 (io), 40 PB17 (io), 41 PA20 (io), 42 PA21 (io), 43 PA22 (io), 44 PA23 (io), 45 PA24 (io), 46 PA25 (io), 47 GND hidden, 48 VDDIO (power), 49 PB22 (io), 50 PB23 (io), 51 PA27 (io), 52 ~{{RESET}} (in), 53 VDDCORE (power), 54 GND hidden, 55 VSW (power), 56 VDDIO (power), 57 PA30 (io), 58 PA31 (io), 59 PB30 (io), 60 PB31 (io), 61 PB00 (io), 62 PB01 (io), 63 PB02 (io), 64 PB03 (io)

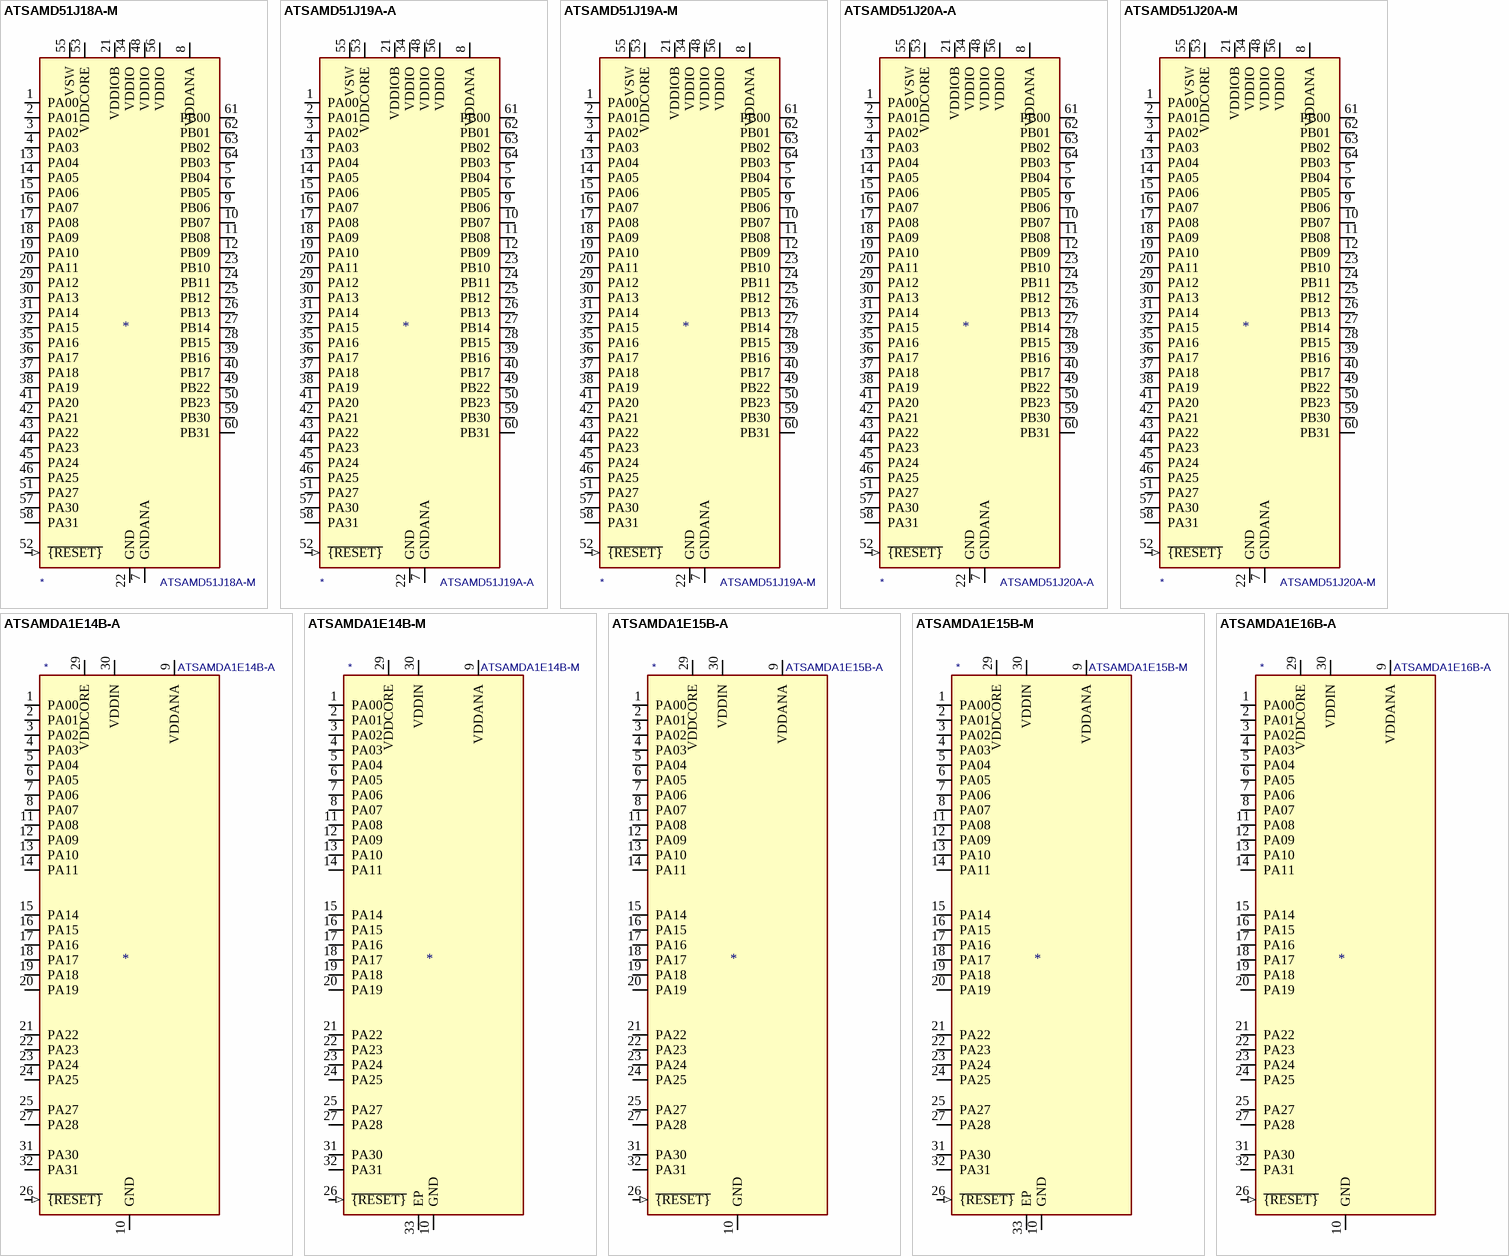
[diagram p6: symbols ATSAMD51J18A-M to ATSAMDA1E16B-A]

## ATSAMD51J18A-M
designator *  value ATSAMD51J18A-M
ki_keywords: 32-bit ARM Cortex-M4F MCU Microcontroller; ki_description: SAM D51 Microchip SMART ARM Cortex-M4F-based MCU, 256K Flash, 128K SRAM, VQFN-64; ki_fp_filters: QFN*1EP*9x9mm*P0.5mm*; Footprint: Package_DFN_QFN:QFN-64-1EP_9x9mm_P0.5mm_EP4.7x4.7mm; Supplier: http://ww1.microchip.com/downloads/en/DeviceDoc/60001507E.pdf
footprint QFN-64-1EP_9x9mm_P0.5mm_EP4.7x4.7mm
pins: 1 PA00 (io), 2 PA01 (io), 3 PA02 (io), 4 PA03 (io), 5 PB04 (io), 6 PB05 (io), 7 GNDANA (power), 8 VDDANA (power), 9 PB06 (io), 10 PB07 (io), 11 PB08 (io), 12 PB09 (io), 13 PA04 (io), 14 PA05 (io), 15 PA06 (io), 16 PA07 (io), 17 PA08 (io), 18 PA09 (io), 19 PA10 (io), 20 PA11 (io), 21 VDDIOB (power), 22 GND (power), 23 PB10 (io), 24 PB11 (io), 25 PB12 (io), 26 PB13 (io), 27 PB14 (io), 28 PB15 (io), 29 PA12 (io), 30 PA13 (io), 31 PA14 (io), 32 PA15 (io), 33 GND hidden, 34 VDDIO (power), 35 PA16 (io), 36 PA17 (io), 37 PA18 (io), 38 PA19 (io), 39 PB16 (io), 40 PB17 (io), 41 PA20 (io), 42 PA21 (io), 43 PA22 (io), 44 PA23 (io), 45 PA24 (io), 46 PA25 (io), 47 GND hidden, 48 VDDIO (power), 49 PB22 (io), 50 PB23 (io), 51 PA27 (io), 52 ~{{RESET}} (in), 53 VDDCORE (power), 54 GND hidden, 55 VSW (power), 56 VDDIO (power), 57 PA30 (io), 58 PA31 (io), 59 PB30 (io), 60 PB31 (io), 61 PB00 (io), 62 PB01 (io), 63 PB02 (io), 64 PB03 (io), 65 GND hidden

## ATSAMD51J19A-A
designator *  value ATSAMD51J19A-A
ki_keywords: 32-bit ARM Cortex-M4F MCU Microcontroller; ki_description: SAM D51 Microchip SMART ARM Cortex-M4F-based MCU, 512K Flash, 192K SRAM, TQFP-64; ki_fp_filters: TQFP*10x10mm*P0.5mm*; Footprint: Package_QFP:TQFP-64_10x10mm_P0.5mm; Supplier: http://ww1.microchip.com/downloads/en/DeviceDoc/60001507E.pdf
footprint TQFP-64_10x10mm_P0.5mm
pins: 1 PA00 (io), 2 PA01 (io), 3 PA02 (io), 4 PA03 (io), 5 PB04 (io), 6 PB05 (io), 7 GNDANA (power), 8 VDDANA (power), 9 PB06 (io), 10 PB07 (io), 11 PB08 (io), 12 PB09 (io), 13 PA04 (io), 14 PA05 (io), 15 PA06 (io), 16 PA07 (io), 17 PA08 (io), 18 PA09 (io), 19 PA10 (io), 20 PA11 (io), 21 VDDIOB (power), 22 GND (power), 23 PB10 (io), 24 PB11 (io), 25 PB12 (io), 26 PB13 (io), 27 PB14 (io), 28 PB15 (io), 29 PA12 (io), 30 PA13 (io), 31 PA14 (io), 32 PA15 (io), 33 GND hidden, 34 VDDIO (power), 35 PA16 (io), 36 PA17 (io), 37 PA18 (io), 38 PA19 (io), 39 PB16 (io), 40 PB17 (io), 41 PA20 (io), 42 PA21 (io), 43 PA22 (io), 44 PA23 (io), 45 PA24 (io), 46 PA25 (io), 47 GND hidden, 48 VDDIO (power), 49 PB22 (io), 50 PB23 (io), 51 PA27 (io), 52 ~{{RESET}} (in), 53 VDDCORE (power), 54 GND hidden, 55 VSW (power), 56 VDDIO (power), 57 PA30 (io), 58 PA31 (io), 59 PB30 (io), 60 PB31 (io), 61 PB00 (io), 62 PB01 (io), 63 PB02 (io), 64 PB03 (io)

## ATSAMD51J19A-M
designator *  value ATSAMD51J19A-M
ki_keywords: 32-bit ARM Cortex-M4F MCU Microcontroller; ki_description: SAM D51 Microchip SMART ARM Cortex-M4F-based MCU, 512K Flash, 192K SRAM, VQFN-64; ki_fp_filters: QFN*1EP*9x9mm*P0.5mm*; Footprint: Package_DFN_QFN:QFN-64-1EP_9x9mm_P0.5mm_EP4.7x4.7mm; Supplier: http://ww1.microchip.com/downloads/en/DeviceDoc/60001507E.pdf
footprint QFN-64-1EP_9x9mm_P0.5mm_EP4.7x4.7mm
pins: 1 PA00 (io), 2 PA01 (io), 3 PA02 (io), 4 PA03 (io), 5 PB04 (io), 6 PB05 (io), 7 GNDANA (power), 8 VDDANA (power), 9 PB06 (io), 10 PB07 (io), 11 PB08 (io), 12 PB09 (io), 13 PA04 (io), 14 PA05 (io), 15 PA06 (io), 16 PA07 (io), 17 PA08 (io), 18 PA09 (io), 19 PA10 (io), 20 PA11 (io), 21 VDDIOB (power), 22 GND (power), 23 PB10 (io), 24 PB11 (io), 25 PB12 (io), 26 PB13 (io), 27 PB14 (io), 28 PB15 (io), 29 PA12 (io), 30 PA13 (io), 31 PA14 (io), 32 PA15 (io), 33 GND hidden, 34 VDDIO (power), 35 PA16 (io), 36 PA17 (io), 37 PA18 (io), 38 PA19 (io), 39 PB16 (io), 40 PB17 (io), 41 PA20 (io), 42 PA21 (io), 43 PA22 (io), 44 PA23 (io), 45 PA24 (io), 46 PA25 (io), 47 GND hidden, 48 VDDIO (power), 49 PB22 (io), 50 PB23 (io), 51 PA27 (io), 52 ~{{RESET}} (in), 53 VDDCORE (power), 54 GND hidden, 55 VSW (power), 56 VDDIO (power), 57 PA30 (io), 58 PA31 (io), 59 PB30 (io), 60 PB31 (io), 61 PB00 (io), 62 PB01 (io), 63 PB02 (io), 64 PB03 (io), 65 GND hidden

## ATSAMD51J20A-A
designator *  value ATSAMD51J20A-A
ki_keywords: 32-bit ARM Cortex-M4F MCU Microcontroller; ki_description: SAM D51 Microchip SMART ARM Cortex-M4F-based MCU, 1024K Flash, 256K SRAM, TQFP-64; ki_fp_filters: TQFP*10x10mm*P0.5mm*; Footprint: Package_QFP:TQFP-64_10x10mm_P0.5mm; Supplier: http://ww1.microchip.com/downloads/en/DeviceDoc/60001507E.pdf
footprint TQFP-64_10x10mm_P0.5mm
pins: 1 PA00 (io), 2 PA01 (io), 3 PA02 (io), 4 PA03 (io), 5 PB04 (io), 6 PB05 (io), 7 GNDANA (power), 8 VDDANA (power), 9 PB06 (io), 10 PB07 (io), 11 PB08 (io), 12 PB09 (io), 13 PA04 (io), 14 PA05 (io), 15 PA06 (io), 16 PA07 (io), 17 PA08 (io), 18 PA09 (io), 19 PA10 (io), 20 PA11 (io), 21 VDDIOB (power), 22 GND (power), 23 PB10 (io), 24 PB11 (io), 25 PB12 (io), 26 PB13 (io), 27 PB14 (io), 28 PB15 (io), 29 PA12 (io), 30 PA13 (io), 31 PA14 (io), 32 PA15 (io), 33 GND hidden, 34 VDDIO (power), 35 PA16 (io), 36 PA17 (io), 37 PA18 (io), 38 PA19 (io), 39 PB16 (io), 40 PB17 (io), 41 PA20 (io), 42 PA21 (io), 43 PA22 (io), 44 PA23 (io), 45 PA24 (io), 46 PA25 (io), 47 GND hidden, 48 VDDIO (power), 49 PB22 (io), 50 PB23 (io), 51 PA27 (io), 52 ~{{RESET}} (in), 53 VDDCORE (power), 54 GND hidden, 55 VSW (power), 56 VDDIO (power), 57 PA30 (io), 58 PA31 (io), 59 PB30 (io), 60 PB31 (io), 61 PB00 (io), 62 PB01 (io), 63 PB02 (io), 64 PB03 (io)

## ATSAMD51J20A-M
designator *  value ATSAMD51J20A-M
ki_keywords: 32-bit ARM Cortex-M4F MCU Microcontroller; ki_description: SAM D51 Microchip SMART ARM Cortex-M4F-based MCU, 1024K Flash, 256K SRAM, VQFN-64; ki_fp_filters: QFN*1EP*9x9mm*P0.5mm*; Footprint: Package_DFN_QFN:QFN-64-1EP_9x9mm_P0.5mm_EP4.7x4.7mm; Supplier: http://ww1.microchip.com/downloads/en/DeviceDoc/60001507E.pdf
footprint QFN-64-1EP_9x9mm_P0.5mm_EP4.7x4.7mm
pins: 1 PA00 (io), 2 PA01 (io), 3 PA02 (io), 4 PA03 (io), 5 PB04 (io), 6 PB05 (io), 7 GNDANA (power), 8 VDDANA (power), 9 PB06 (io), 10 PB07 (io), 11 PB08 (io), 12 PB09 (io), 13 PA04 (io), 14 PA05 (io), 15 PA06 (io), 16 PA07 (io), 17 PA08 (io), 18 PA09 (io), 19 PA10 (io), 20 PA11 (io), 21 VDDIOB (power), 22 GND (power), 23 PB10 (io), 24 PB11 (io), 25 PB12 (io), 26 PB13 (io), 27 PB14 (io), 28 PB15 (io), 29 PA12 (io), 30 PA13 (io), 31 PA14 (io), 32 PA15 (io), 33 GND hidden, 34 VDDIO (power), 35 PA16 (io), 36 PA17 (io), 37 PA18 (io), 38 PA19 (io), 39 PB16 (io), 40 PB17 (io), 41 PA20 (io), 42 PA21 (io), 43 PA22 (io), 44 PA23 (io), 45 PA24 (io), 46 PA25 (io), 47 GND hidden, 48 VDDIO (power), 49 PB22 (io), 50 PB23 (io), 51 PA27 (io), 52 ~{{RESET}} (in), 53 VDDCORE (power), 54 GND hidden, 55 VSW (power), 56 VDDIO (power), 57 PA30 (io), 58 PA31 (io), 59 PB30 (io), 60 PB31 (io), 61 PB00 (io), 62 PB01 (io), 63 PB02 (io), 64 PB03 (io), 65 GND hidden

## ATSAMDA1E14B-A
designator *  value ATSAMDA1E14B-A
ki_keywords: 32-bit ARM Cortex-M0+ MCU Microcontroller; ki_description: SAM DA1 Microchip SMART ARM-based Flash MCU, 48Mhz, 16K Flash w/ 0.5K RWW, 4K SRAM, TQFP-32; ki_fp_filters: TQFP*7x7mm*P0.8mm*; Footprint: Package_QFP:TQFP-32_7x7mm_P0.8mm; Supplier: http://ww1.microchip.com/downloads/en/DeviceDoc/SAM_D21_DA1_Family_Data%20Sheet_DS40001882E.pdf
footprint TQFP-32_7x7mm_P0.8mm
pins: 1 PA00 (io), 2 PA01 (io), 3 PA02 (io), 4 PA03 (io), 5 PA04 (io), 6 PA05 (io), 7 PA06 (io), 8 PA07 (io), 9 VDDANA (power), 10 GND (power), 11 PA08 (io), 12 PA09 (io), 13 PA10 (io), 14 PA11 (io), 15 PA14 (io), 16 PA15 (io), 17 PA16 (io), 18 PA17 (io), 19 PA18 (io), 20 PA19 (io), 21 PA22 (io), 22 PA23 (io), 23 PA24 (io), 24 PA25 (io), 25 PA27 (io), 26 ~{{RESET}} (in), 27 PA28 (io), 28 GND hidden, 29 VDDCORE (power), 30 VDDIN (power), 31 PA30 (io), 32 PA31 (io)

## ATSAMDA1E14B-M
designator *  value ATSAMDA1E14B-M
ki_keywords: 32-bit ARM Cortex-M0+ MCU Microcontroller; ki_description: SAM DA1 Microchip SMART ARM-based Flash MCU, 48Mhz, 16K Flash w/ 0.5K RWW, 4K SRAM, QFN-32; ki_fp_filters: QFN*5x5mm*P0.5mm*; Footprint: Package_DFN_QFN:QFN-32-1EP_5x5mm_P0.5mm_EP3.6x3.6mm; Supplier: http://ww1.microchip.com/downloads/en/DeviceDoc/SAM_D21_DA1_Family_Data%20Sheet_DS40001882E.pdf
footprint QFN-32-1EP_5x5mm_P0.5mm_EP3.6x3.6mm
pins: 1 PA00 (io), 2 PA01 (io), 3 PA02 (io), 4 PA03 (io), 5 PA04 (io), 6 PA05 (io), 7 PA06 (io), 8 PA07 (io), 9 VDDANA (power), 10 GND (power), 11 PA08 (io), 12 PA09 (io), 13 PA10 (io), 14 PA11 (io), 15 PA14 (io), 16 PA15 (io), 17 PA16 (io), 18 PA17 (io), 19 PA18 (io), 20 PA19 (io), 21 PA22 (io), 22 PA23 (io), 23 PA24 (io), 24 PA25 (io), 25 PA27 (io), 26 ~{{RESET}} (in), 27 PA28 (io), 28 GND hidden, 29 VDDCORE (power), 30 VDDIN (power), 31 PA30 (io), 32 PA31 (io), 33 EP

## ATSAMDA1E15B-A
designator *  value ATSAMDA1E15B-A
ki_keywords: 32-bit ARM Cortex-M0+ MCU Microcontroller; ki_description: SAM DA1 Microchip SMART ARM-based Flash MCU, 48Mhz, 32K Flash w/ 1K RWW, 4K SRAM, TQFP-32; ki_fp_filters: TQFP*7x7mm*P0.8mm*; Footprint: Package_QFP:TQFP-32_7x7mm_P0.8mm; Supplier: http://ww1.microchip.com/downloads/en/DeviceDoc/SAM_D21_DA1_Family_Data%20Sheet_DS40001882E.pdf
footprint TQFP-32_7x7mm_P0.8mm
pins: 1 PA00 (io), 2 PA01 (io), 3 PA02 (io), 4 PA03 (io), 5 PA04 (io), 6 PA05 (io), 7 PA06 (io), 8 PA07 (io), 9 VDDANA (power), 10 GND (power), 11 PA08 (io), 12 PA09 (io), 13 PA10 (io), 14 PA11 (io), 15 PA14 (io), 16 PA15 (io), 17 PA16 (io), 18 PA17 (io), 19 PA18 (io), 20 PA19 (io), 21 PA22 (io), 22 PA23 (io), 23 PA24 (io), 24 PA25 (io), 25 PA27 (io), 26 ~{{RESET}} (in), 27 PA28 (io), 28 GND hidden, 29 VDDCORE (power), 30 VDDIN (power), 31 PA30 (io), 32 PA31 (io)

## ATSAMDA1E15B-M
designator *  value ATSAMDA1E15B-M
ki_keywords: 32-bit ARM Cortex-M0+ MCU Microcontroller; ki_description: SAM DA1 Microchip SMART ARM-based Flash MCU, 48Mhz, 32K Flash w/ 1K RWW, 4K SRAM, QFN-32; ki_fp_filters: QFN*5x5mm*P0.5mm*; Footprint: Package_DFN_QFN:QFN-32-1EP_5x5mm_P0.5mm_EP3.6x3.6mm; Supplier: http://ww1.microchip.com/downloads/en/DeviceDoc/SAM_D21_DA1_Family_Data%20Sheet_DS40001882E.pdf
footprint QFN-32-1EP_5x5mm_P0.5mm_EP3.6x3.6mm
pins: 1 PA00 (io), 2 PA01 (io), 3 PA02 (io), 4 PA03 (io), 5 PA04 (io), 6 PA05 (io), 7 PA06 (io), 8 PA07 (io), 9 VDDANA (power), 10 GND (power), 11 PA08 (io), 12 PA09 (io), 13 PA10 (io), 14 PA11 (io), 15 PA14 (io), 16 PA15 (io), 17 PA16 (io), 18 PA17 (io), 19 PA18 (io), 20 PA19 (io), 21 PA22 (io), 22 PA23 (io), 23 PA24 (io), 24 PA25 (io), 25 PA27 (io), 26 ~{{RESET}} (in), 27 PA28 (io), 28 GND hidden, 29 VDDCORE (power), 30 VDDIN (power), 31 PA30 (io), 32 PA31 (io), 33 EP

## ATSAMDA1E16B-A
designator *  value ATSAMDA1E16B-A
ki_keywords: 32-bit ARM Cortex-M0+ MCU Microcontroller; ki_description: SAM DA1 Microchip SMART ARM-based Flash MCU, 48Mhz, 64K Flash w/ 2K RWW, 8K SRAM, TQFP-32; ki_fp_filters: TQFP*7x7mm*P0.8mm*; Footprint: Package_QFP:TQFP-32_7x7mm_P0.8mm; Supplier: http://ww1.microchip.com/downloads/en/DeviceDoc/SAM_D21_DA1_Family_Data%20Sheet_DS40001882E.pdf
footprint TQFP-32_7x7mm_P0.8mm
pins: 1 PA00 (io), 2 PA01 (io), 3 PA02 (io), 4 PA03 (io), 5 PA04 (io), 6 PA05 (io), 7 PA06 (io), 8 PA07 (io), 9 VDDANA (power), 10 GND (power), 11 PA08 (io), 12 PA09 (io), 13 PA10 (io), 14 PA11 (io), 15 PA14 (io), 16 PA15 (io), 17 PA16 (io), 18 PA17 (io), 19 PA18 (io), 20 PA19 (io), 21 PA22 (io), 22 PA23 (io), 23 PA24 (io), 24 PA25 (io), 25 PA27 (io), 26 ~{{RESET}} (in), 27 PA28 (io), 28 GND hidden, 29 VDDCORE (power), 30 VDDIN (power), 31 PA30 (io), 32 PA31 (io)

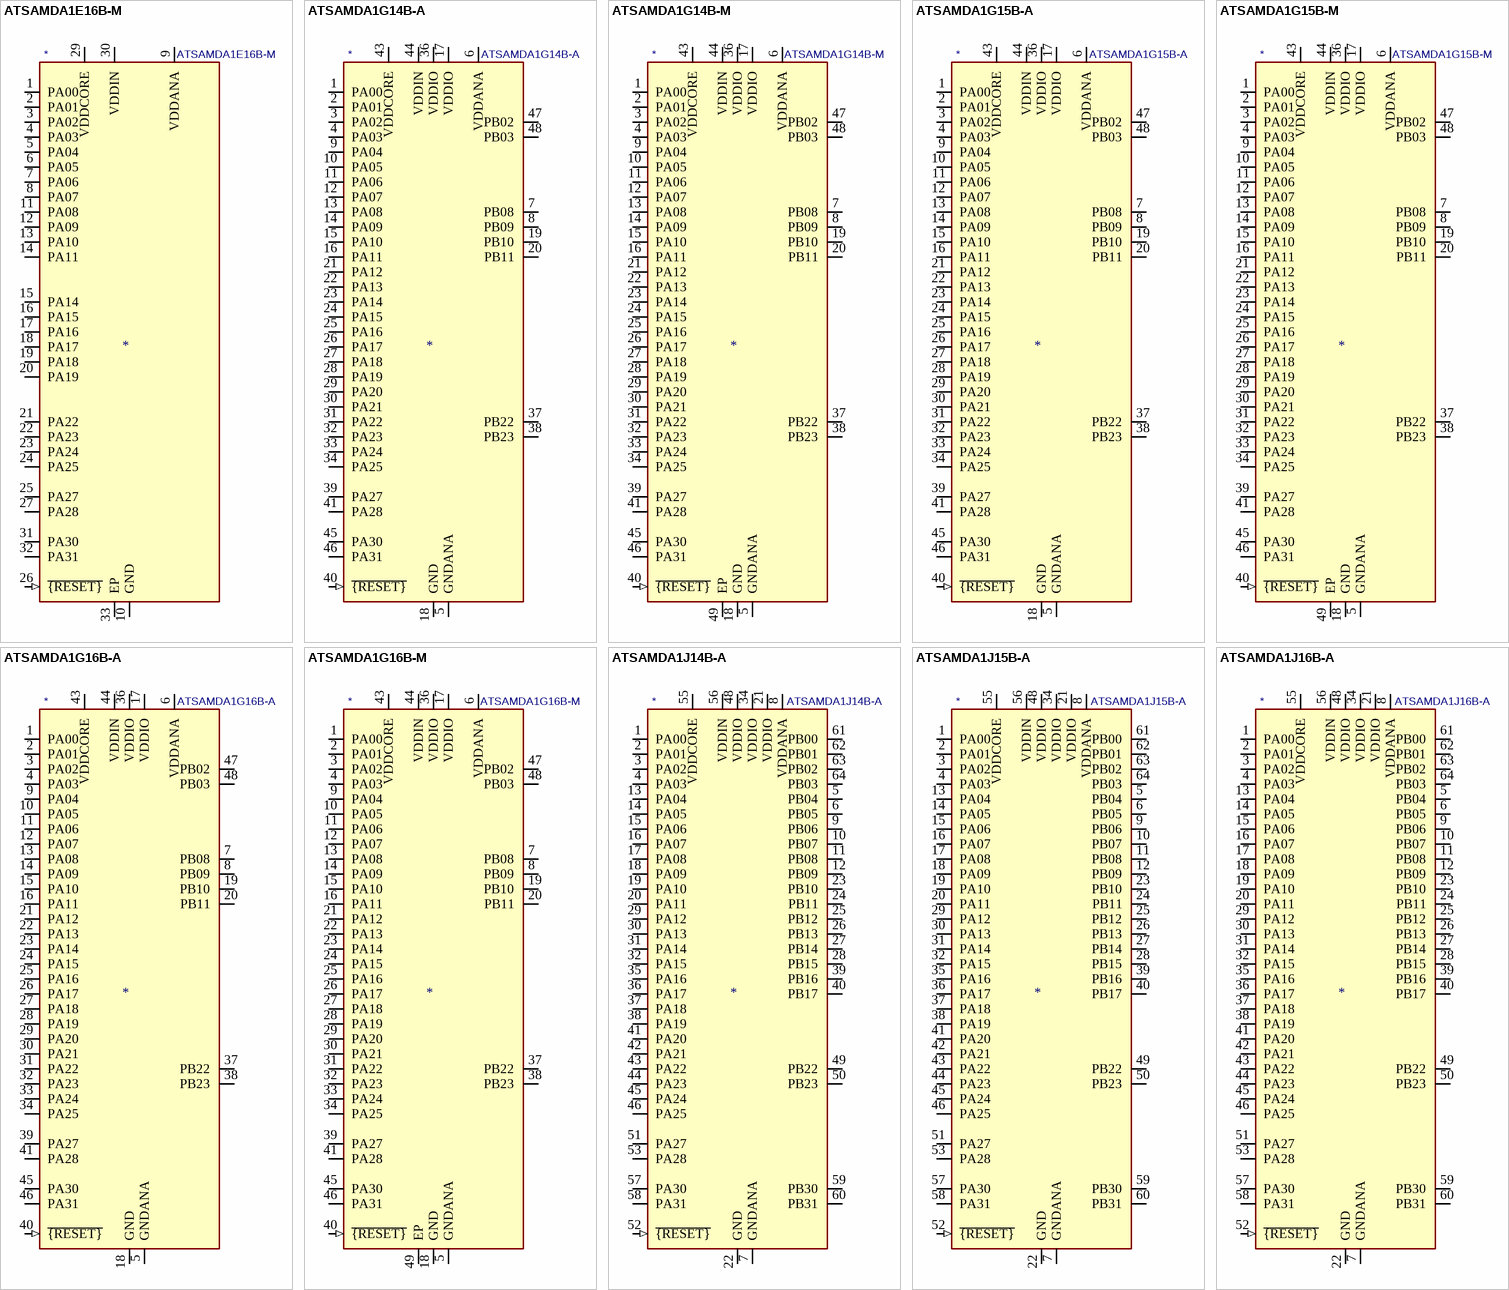
[diagram p7: symbols ATSAMDA1E16B-M to ATSAMDA1J16B-A]

## ATSAMDA1E16B-M
designator *  value ATSAMDA1E16B-M
ki_keywords: 32-bit ARM Cortex-M0+ MCU Microcontroller; ki_description: SAM DA1 Microchip SMART ARM-based Flash MCU, 48Mhz, 64K Flash w/ 2K RWW, 8K SRAM, QFN-32; ki_fp_filters: QFN*5x5mm*P0.5mm*; Footprint: Package_DFN_QFN:QFN-32-1EP_5x5mm_P0.5mm_EP3.6x3.6mm; Supplier: http://ww1.microchip.com/downloads/en/DeviceDoc/SAM_D21_DA1_Family_Data%20Sheet_DS40001882E.pdf
footprint QFN-32-1EP_5x5mm_P0.5mm_EP3.6x3.6mm
pins: 1 PA00 (io), 2 PA01 (io), 3 PA02 (io), 4 PA03 (io), 5 PA04 (io), 6 PA05 (io), 7 PA06 (io), 8 PA07 (io), 9 VDDANA (power), 10 GND (power), 11 PA08 (io), 12 PA09 (io), 13 PA10 (io), 14 PA11 (io), 15 PA14 (io), 16 PA15 (io), 17 PA16 (io), 18 PA17 (io), 19 PA18 (io), 20 PA19 (io), 21 PA22 (io), 22 PA23 (io), 23 PA24 (io), 24 PA25 (io), 25 PA27 (io), 26 ~{{RESET}} (in), 27 PA28 (io), 28 GND hidden, 29 VDDCORE (power), 30 VDDIN (power), 31 PA30 (io), 32 PA31 (io), 33 EP

## ATSAMDA1G14B-A
designator *  value ATSAMDA1G14B-A
ki_keywords: 32-bit ARM Cortex-M0+ MCU Microcontroller; ki_description: SAM DA1 Microchip SMART ARM-based Flash MCU, 48Mhz, 16K Flash w/ 0.5K RWW, 4K SRAM, TQFP-48; ki_fp_filters: TQFP*7x7mm*P0.5mm*; Footprint: Package_QFP:TQFP-48_7x7mm_P0.5mm; Supplier: http://ww1.microchip.com/downloads/en/DeviceDoc/SAM_D21_DA1_Family_Data%20Sheet_DS40001882E.pdf
footprint TQFP-48_7x7mm_P0.5mm
pins: 1 PA00 (io), 2 PA01 (io), 3 PA02 (io), 4 PA03 (io), 5 GNDANA (power), 6 VDDANA (power), 7 PB08 (io), 8 PB09 (io), 9 PA04 (io), 10 PA05 (io), 11 PA06 (io), 12 PA07 (io), 13 PA08 (io), 14 PA09 (io), 15 PA10 (io), 16 PA11 (io), 17 VDDIO (power), 18 GND (power), 19 PB10 (io), 20 PB11 (io), 21 PA12 (io), 22 PA13 (io), 23 PA14 (io), 24 PA15 (io), 25 PA16 (io), 26 PA17 (io), 27 PA18 (io), 28 PA19 (io), 29 PA20 (io), 30 PA21 (io), 31 PA22 (io), 32 PA23 (io), 33 PA24 (io), 34 PA25 (io), 35 GND hidden, 36 VDDIO (power), 37 PB22 (io), 38 PB23 (io), 39 PA27 (io), 40 ~{{RESET}} (in), 41 PA28 (io), 42 GND hidden, 43 VDDCORE (power), 44 VDDIN (power), 45 PA30 (io), 46 PA31 (io), 47 PB02 (io), 48 PB03 (io)

## ATSAMDA1G14B-M
designator *  value ATSAMDA1G14B-M
ki_keywords: 32-bit ARM Cortex-M0+ MCU Microcontroller; ki_description: SAM DA1 Microchip SMART ARM-based Flash MCU, 48Mhz, 16K Flash w/ 0.5K RWW, 4K SRAM, QFN-48; ki_fp_filters: QFN*7x7mm*P0.5mm*; Footprint: Package_DFN_QFN:QFN-48-1EP_7x7mm_P0.5mm_EP5.15x5.15mm; Supplier: http://ww1.microchip.com/downloads/en/DeviceDoc/SAM_D21_DA1_Family_Data%20Sheet_DS40001882E.pdf
footprint QFN-48-1EP_7x7mm_P0.5mm_EP5.15x5.15mm
pins: 1 PA00 (io), 2 PA01 (io), 3 PA02 (io), 4 PA03 (io), 5 GNDANA (power), 6 VDDANA (power), 7 PB08 (io), 8 PB09 (io), 9 PA04 (io), 10 PA05 (io), 11 PA06 (io), 12 PA07 (io), 13 PA08 (io), 14 PA09 (io), 15 PA10 (io), 16 PA11 (io), 17 VDDIO (power), 18 GND (power), 19 PB10 (io), 20 PB11 (io), 21 PA12 (io), 22 PA13 (io), 23 PA14 (io), 24 PA15 (io), 25 PA16 (io), 26 PA17 (io), 27 PA18 (io), 28 PA19 (io), 29 PA20 (io), 30 PA21 (io), 31 PA22 (io), 32 PA23 (io), 33 PA24 (io), 34 PA25 (io), 35 GND hidden, 36 VDDIO (power), 37 PB22 (io), 38 PB23 (io), 39 PA27 (io), 40 ~{{RESET}} (in), 41 PA28 (io), 42 GND hidden, 43 VDDCORE (power), 44 VDDIN (power), 45 PA30 (io), 46 PA31 (io), 47 PB02 (io), 48 PB03 (io), 49 EP

## ATSAMDA1G15B-A
designator *  value ATSAMDA1G15B-A
ki_keywords: 32-bit ARM Cortex-M0+ MCU Microcontroller; ki_description: SAM DA1 Microchip SMART ARM-based Flash MCU, 48Mhz, 32K Flash w/ 1K RWW, 4K SRAM, TQFP-48; ki_fp_filters: TQFP*7x7mm*P0.5mm*; Footprint: Package_QFP:TQFP-48_7x7mm_P0.5mm; Supplier: http://ww1.microchip.com/downloads/en/DeviceDoc/SAM_D21_DA1_Family_Data%20Sheet_DS40001882E.pdf
footprint TQFP-48_7x7mm_P0.5mm
pins: 1 PA00 (io), 2 PA01 (io), 3 PA02 (io), 4 PA03 (io), 5 GNDANA (power), 6 VDDANA (power), 7 PB08 (io), 8 PB09 (io), 9 PA04 (io), 10 PA05 (io), 11 PA06 (io), 12 PA07 (io), 13 PA08 (io), 14 PA09 (io), 15 PA10 (io), 16 PA11 (io), 17 VDDIO (power), 18 GND (power), 19 PB10 (io), 20 PB11 (io), 21 PA12 (io), 22 PA13 (io), 23 PA14 (io), 24 PA15 (io), 25 PA16 (io), 26 PA17 (io), 27 PA18 (io), 28 PA19 (io), 29 PA20 (io), 30 PA21 (io), 31 PA22 (io), 32 PA23 (io), 33 PA24 (io), 34 PA25 (io), 35 GND hidden, 36 VDDIO (power), 37 PB22 (io), 38 PB23 (io), 39 PA27 (io), 40 ~{{RESET}} (in), 41 PA28 (io), 42 GND hidden, 43 VDDCORE (power), 44 VDDIN (power), 45 PA30 (io), 46 PA31 (io), 47 PB02 (io), 48 PB03 (io)

## ATSAMDA1G15B-M
designator *  value ATSAMDA1G15B-M
ki_keywords: 32-bit ARM Cortex-M0+ MCU Microcontroller; ki_description: SAM DA1 Microchip SMART ARM-based Flash MCU, 48Mhz, 32K Flash w/ 1K RWW, 4K SRAM, QFN-48; ki_fp_filters: QFN*7x7mm*P0.5mm*; Footprint: Package_DFN_QFN:QFN-48-1EP_7x7mm_P0.5mm_EP5.15x5.15mm; Supplier: http://ww1.microchip.com/downloads/en/DeviceDoc/SAM_D21_DA1_Family_Data%20Sheet_DS40001882E.pdf
footprint QFN-48-1EP_7x7mm_P0.5mm_EP5.15x5.15mm
pins: 1 PA00 (io), 2 PA01 (io), 3 PA02 (io), 4 PA03 (io), 5 GNDANA (power), 6 VDDANA (power), 7 PB08 (io), 8 PB09 (io), 9 PA04 (io), 10 PA05 (io), 11 PA06 (io), 12 PA07 (io), 13 PA08 (io), 14 PA09 (io), 15 PA10 (io), 16 PA11 (io), 17 VDDIO (power), 18 GND (power), 19 PB10 (io), 20 PB11 (io), 21 PA12 (io), 22 PA13 (io), 23 PA14 (io), 24 PA15 (io), 25 PA16 (io), 26 PA17 (io), 27 PA18 (io), 28 PA19 (io), 29 PA20 (io), 30 PA21 (io), 31 PA22 (io), 32 PA23 (io), 33 PA24 (io), 34 PA25 (io), 35 GND hidden, 36 VDDIO (power), 37 PB22 (io), 38 PB23 (io), 39 PA27 (io), 40 ~{{RESET}} (in), 41 PA28 (io), 42 GND hidden, 43 VDDCORE (power), 44 VDDIN (power), 45 PA30 (io), 46 PA31 (io), 47 PB02 (io), 48 PB03 (io), 49 EP

## ATSAMDA1G16B-A
designator *  value ATSAMDA1G16B-A
ki_keywords: 32-bit ARM Cortex-M0+ MCU Microcontroller; ki_description: SAM DA1 Microchip SMART ARM-based Flash MCU, 48Mhz, 64K Flash w/ 2K RWW, 8K SRAM, TQFP-48; ki_fp_filters: TQFP*7x7mm*P0.5mm*; Footprint: Package_QFP:TQFP-48_7x7mm_P0.5mm; Supplier: http://ww1.microchip.com/downloads/en/DeviceDoc/SAM_D21_DA1_Family_Data%20Sheet_DS40001882E.pdf
footprint TQFP-48_7x7mm_P0.5mm
pins: 1 PA00 (io), 2 PA01 (io), 3 PA02 (io), 4 PA03 (io), 5 GNDANA (power), 6 VDDANA (power), 7 PB08 (io), 8 PB09 (io), 9 PA04 (io), 10 PA05 (io), 11 PA06 (io), 12 PA07 (io), 13 PA08 (io), 14 PA09 (io), 15 PA10 (io), 16 PA11 (io), 17 VDDIO (power), 18 GND (power), 19 PB10 (io), 20 PB11 (io), 21 PA12 (io), 22 PA13 (io), 23 PA14 (io), 24 PA15 (io), 25 PA16 (io), 26 PA17 (io), 27 PA18 (io), 28 PA19 (io), 29 PA20 (io), 30 PA21 (io), 31 PA22 (io), 32 PA23 (io), 33 PA24 (io), 34 PA25 (io), 35 GND hidden, 36 VDDIO (power), 37 PB22 (io), 38 PB23 (io), 39 PA27 (io), 40 ~{{RESET}} (in), 41 PA28 (io), 42 GND hidden, 43 VDDCORE (power), 44 VDDIN (power), 45 PA30 (io), 46 PA31 (io), 47 PB02 (io), 48 PB03 (io)

## ATSAMDA1G16B-M
designator *  value ATSAMDA1G16B-M
ki_keywords: 32-bit ARM Cortex-M0+ MCU Microcontroller; ki_description: SAM DA1 Microchip SMART ARM-based Flash MCU, 48Mhz, 64K Flash w/ 2K RWW, 8K SRAM, QFN-48; ki_fp_filters: QFN*7x7mm*P0.5mm*; Footprint: Package_DFN_QFN:QFN-48-1EP_7x7mm_P0.5mm_EP5.15x5.15mm; Supplier: http://ww1.microchip.com/downloads/en/DeviceDoc/SAM_D21_DA1_Family_Data%20Sheet_DS40001882E.pdf
footprint QFN-48-1EP_7x7mm_P0.5mm_EP5.15x5.15mm
pins: 1 PA00 (io), 2 PA01 (io), 3 PA02 (io), 4 PA03 (io), 5 GNDANA (power), 6 VDDANA (power), 7 PB08 (io), 8 PB09 (io), 9 PA04 (io), 10 PA05 (io), 11 PA06 (io), 12 PA07 (io), 13 PA08 (io), 14 PA09 (io), 15 PA10 (io), 16 PA11 (io), 17 VDDIO (power), 18 GND (power), 19 PB10 (io), 20 PB11 (io), 21 PA12 (io), 22 PA13 (io), 23 PA14 (io), 24 PA15 (io), 25 PA16 (io), 26 PA17 (io), 27 PA18 (io), 28 PA19 (io), 29 PA20 (io), 30 PA21 (io), 31 PA22 (io), 32 PA23 (io), 33 PA24 (io), 34 PA25 (io), 35 GND hidden, 36 VDDIO (power), 37 PB22 (io), 38 PB23 (io), 39 PA27 (io), 40 ~{{RESET}} (in), 41 PA28 (io), 42 GND hidden, 43 VDDCORE (power), 44 VDDIN (power), 45 PA30 (io), 46 PA31 (io), 47 PB02 (io), 48 PB03 (io), 49 EP

## ATSAMDA1J14B-A
designator *  value ATSAMDA1J14B-A
ki_keywords: 32-bit ARM Cortex-M0+ MCU Microcontroller; ki_description: SAM DA1 Microchip SMART ARM-based Flash MCU, 48Mhz, 16K Flash w/ 0.5K RWW, 4K SRAM, TQFP-64; ki_fp_filters: TQFP*10x10mm*P0.5mm*; Footprint: Package_QFP:TQFP-64_10x10mm_P0.5mm; Supplier: http://ww1.microchip.com/downloads/en/DeviceDoc/SAM_D21_DA1_Family_Data%20Sheet_DS40001882E.pdf
footprint TQFP-64_10x10mm_P0.5mm
pins: 1 PA00 (io), 2 PA01 (io), 3 PA02 (io), 4 PA03 (io), 5 PB04 (io), 6 PB05 (io), 7 GNDANA (power), 8 VDDANA (power), 9 PB06 (io), 10 PB07 (io), 11 PB08 (io), 12 PB09 (io), 13 PA04 (io), 14 PA05 (io), 15 PA06 (io), 16 PA07 (io), 17 PA08 (io), 18 PA09 (io), 19 PA10 (io), 20 PA11 (io), 21 VDDIO (power), 22 GND (power), 23 PB10 (io), 24 PB11 (io), 25 PB12 (io), 26 PB13 (io), 27 PB14 (io), 28 PB15 (io), 29 PA12 (io), 30 PA13 (io), 31 PA14 (io), 32 PA15 (io), 33 GND hidden, 34 VDDIO (power), 35 PA16 (io), 36 PA17 (io), 37 PA18 (io), 38 PA19 (io), 39 PB16 (io), 40 PB17 (io), 41 PA20 (io), 42 PA21 (io), 43 PA22 (io), 44 PA23 (io), 45 PA24 (io), 46 PA25 (io), 47 GND hidden, 48 VDDIO (power), 49 PB22 (io), 50 PB23 (io), 51 PA27 (io), 52 ~{{RESET}} (in), 53 PA28 (io), 54 GND hidden, 55 VDDCORE (power), 56 VDDIN (power), 57 PA30 (io), 58 PA31 (io), 59 PB30 (io), 60 PB31 (io), 61 PB00 (io), 62 PB01 (io), 63 PB02 (io), 64 PB03 (io)

## ATSAMDA1J15B-A
designator *  value ATSAMDA1J15B-A
ki_keywords: 32-bit ARM Cortex-M0+ MCU Microcontroller; ki_description: SAM DA1 Microchip SMART ARM-based Flash MCU, 48Mhz, 32K Flash w/ 1K RWW, 4K SRAM, TQFP-64; ki_fp_filters: TQFP*10x10mm*P0.5mm*; Footprint: Package_QFP:TQFP-64_10x10mm_P0.5mm; Supplier: http://ww1.microchip.com/downloads/en/DeviceDoc/SAM_D21_DA1_Family_Data%20Sheet_DS40001882E.pdf
footprint TQFP-64_10x10mm_P0.5mm
pins: 1 PA00 (io), 2 PA01 (io), 3 PA02 (io), 4 PA03 (io), 5 PB04 (io), 6 PB05 (io), 7 GNDANA (power), 8 VDDANA (power), 9 PB06 (io), 10 PB07 (io), 11 PB08 (io), 12 PB09 (io), 13 PA04 (io), 14 PA05 (io), 15 PA06 (io), 16 PA07 (io), 17 PA08 (io), 18 PA09 (io), 19 PA10 (io), 20 PA11 (io), 21 VDDIO (power), 22 GND (power), 23 PB10 (io), 24 PB11 (io), 25 PB12 (io), 26 PB13 (io), 27 PB14 (io), 28 PB15 (io), 29 PA12 (io), 30 PA13 (io), 31 PA14 (io), 32 PA15 (io), 33 GND hidden, 34 VDDIO (power), 35 PA16 (io), 36 PA17 (io), 37 PA18 (io), 38 PA19 (io), 39 PB16 (io), 40 PB17 (io), 41 PA20 (io), 42 PA21 (io), 43 PA22 (io), 44 PA23 (io), 45 PA24 (io), 46 PA25 (io), 47 GND hidden, 48 VDDIO (power), 49 PB22 (io), 50 PB23 (io), 51 PA27 (io), 52 ~{{RESET}} (in), 53 PA28 (io), 54 GND hidden, 55 VDDCORE (power), 56 VDDIN (power), 57 PA30 (io), 58 PA31 (io), 59 PB30 (io), 60 PB31 (io), 61 PB00 (io), 62 PB01 (io), 63 PB02 (io), 64 PB03 (io)

## ATSAMDA1J16B-A
designator *  value ATSAMDA1J16B-A
ki_keywords: 32-bit ARM Cortex-M0+ MCU Microcontroller; ki_description: SAM DA1 Microchip SMART ARM-based Flash MCU, 48Mhz, 64K Flash w/ 2K RWW, 8K SRAM, TQFP-64; ki_fp_filters: TQFP*10x10mm*P0.5mm*; Footprint: Package_QFP:TQFP-64_10x10mm_P0.5mm; Supplier: http://ww1.microchip.com/downloads/en/DeviceDoc/SAM_D21_DA1_Family_Data%20Sheet_DS40001882E.pdf
footprint TQFP-64_10x10mm_P0.5mm
pins: 1 PA00 (io), 2 PA01 (io), 3 PA02 (io), 4 PA03 (io), 5 PB04 (io), 6 PB05 (io), 7 GNDANA (power), 8 VDDANA (power), 9 PB06 (io), 10 PB07 (io), 11 PB08 (io), 12 PB09 (io), 13 PA04 (io), 14 PA05 (io), 15 PA06 (io), 16 PA07 (io), 17 PA08 (io), 18 PA09 (io), 19 PA10 (io), 20 PA11 (io), 21 VDDIO (power), 22 GND (power), 23 PB10 (io), 24 PB11 (io), 25 PB12 (io), 26 PB13 (io), 27 PB14 (io), 28 PB15 (io), 29 PA12 (io), 30 PA13 (io), 31 PA14 (io), 32 PA15 (io), 33 GND hidden, 34 VDDIO (power), 35 PA16 (io), 36 PA17 (io), 37 PA18 (io), 38 PA19 (io), 39 PB16 (io), 40 PB17 (io), 41 PA20 (io), 42 PA21 (io), 43 PA22 (io), 44 PA23 (io), 45 PA24 (io), 46 PA25 (io), 47 GND hidden, 48 VDDIO (power), 49 PB22 (io), 50 PB23 (io), 51 PA27 (io), 52 ~{{RESET}} (in), 53 PA28 (io), 54 GND hidden, 55 VDDCORE (power), 56 VDDIN (power), 57 PA30 (io), 58 PA31 (io), 59 PB30 (io), 60 PB31 (io), 61 PB00 (io), 62 PB01 (io), 63 PB02 (io), 64 PB03 (io)